# Altium schematic symbol library CA56-11GWA.SchLib: 1 symbol
Pins are listed as number, name and electrical type; pins without a type are passive.

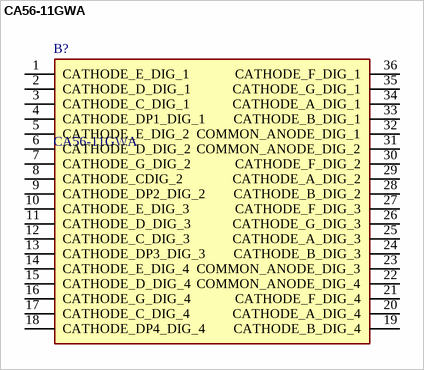
[diagram p0: symbol CA56-11GWA]

## CA56-11GWA
designator B?
Display: LED; 7-segment; 14mm; 0.56"; No.char:4; green; 310.5mcd; Manufacturer_Name: Kingbright; Geometry.Height: 8.35mm; Mouser Part Number: 604-CA56-11GWA; Mouser Price/Stock: https://www.mouser.co.uk/ProductDetail/Kingbright/CA56-11GWA?qs=f499HRGa1RkeWdb5ZgdDwg%3D%3D; Manufacturer_Part_Number: CA56-11GWA; Datasheet Link: https://componentsearchengine.com/Datasheets/2/CA56-11GWA.pdf
footprint CA5611GWA
pins: 1 CATHODE_E_DIG_1, 2 CATHODE_D_DIG_1, 3 CATHODE_C_DIG_1, 4 CATHODE_DP1_DIG_1, 5 CATHODE_E_DIG_2, 6 CATHODE_D_DIG_2, 7 CATHODE_G_DIG_2, 8 CATHODE_CDIG_2, 9 CATHODE_DP2_DIG_2, 10 CATHODE_E_DIG_3, 11 CATHODE_D_DIG_3, 12 CATHODE_C_DIG_3, 13 CATHODE_DP3_DIG_3, 14 CATHODE_E_DIG_4, 15 CATHODE_D_DIG_4, 16 CATHODE_G_DIG_4, 17 CATHODE_C_DIG_4, 18 CATHODE_DP4_DIG_4, 19 CATHODE_B_DIG_4, 20 CATHODE_A_DIG_4, 21 CATHODE_F_DIG_4, 22 COMMON_ANODE_DIG_4, 23 COMMON_ANODE_DIG_3, 24 CATHODE_B_DIG_3, 25 CATHODE_A_DIG_3, 26 CATHODE_G_DIG_3, 27 CATHODE_F_DIG_3, 28 CATHODE_B_DIG_2, 29 CATHODE_A_DIG_2, 30 CATHODE_F_DIG_2, 31 COMMON_ANODE_DIG_2, 32 COMMON_ANODE_DIG_1, 33 CATHODE_B_DIG_1, 34 CATHODE_A_DIG_1, 35 CATHODE_G_DIG_1, 36 CATHODE_F_DIG_1